# EAGLE library part LTC6240 (library hotfix)
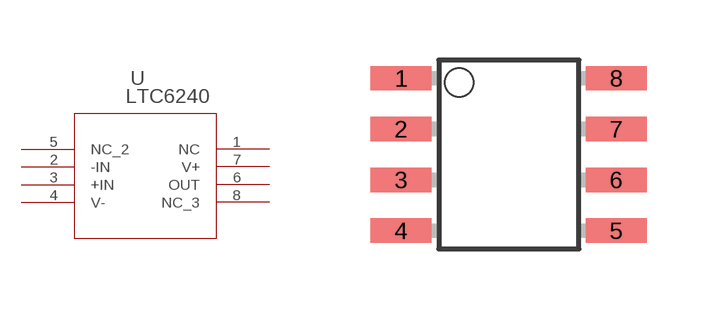
[diagram p0: symbol with the pads of SO-8; footprint SO-8]

Designator prefix U

## LTC6240SO-8  [SO-8]
1  NC  nc
2  -IN  in
3  +IN  in
4  V-  pwr
5  NC_2  nc
6  OUT  out
7  V+  pwr
8  NC_3  nc

## Footprint SO-8 (pad centres in mm)
SO 8 small outline
smd 1.524 x 0.61: 1 -2.692,1.905; 2 -2.692,0.635; 3 -2.692,-0.635; 4 -2.692,-1.905; 5 2.692,-1.905; 6 2.692,-0.635; 7 2.692,0.635; 8 2.692,1.905